# EAGLE library part MT29F64G08CFACAWP:C (library ICs)
8GB NAND Flash memory.
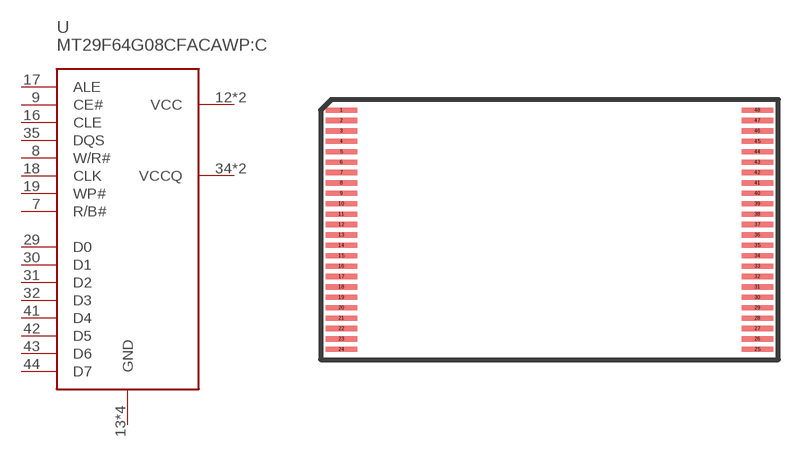
[diagram p59: symbol with the pads of TSOP48; footprint TSOP48]

Designator prefix U

## MT29F64G08CFACAWP:C (DIGIKEY: 557-1538-1-ND; PRICE_PER: 13.63; VALUE: MT29F64G08CFACAWP:C TR)  [TSOP48]
7  R/B#
8  W/R#
9  CE#
12  VCC
13  GND
16  CLE
17  ALE
18  CLK
19  WP#
25  GND
29  D0
30  D1
31  D2
32  D3
34  VCCQ
35  DQS
36  GND
37  VCC
39  VCCQ
41  D4
42  D5
43  D6
44  D7
48  GND

## Footprint TSOP48 (pad centres in mm)
smd 1.5 x 0.25: 1 -10,5.75; 2 -10,5.25; 3 -10,4.75; 4 -10,4.25; 5 -10,3.75; 6 -10,3.25; 7 -10,2.75; 8 -10,2.25; 9 -10,1.75; 10 -10,1.25; 11 -10,0.75; 12 -10,0.25; 13 -10,-0.25; 14 -10,-0.75; 15 -10,-1.25; 16 -10,-1.75; 17 -10,-2.25; 18 -10,-2.75; 19 -10,-3.25; 20 -10,-3.75; 21 -10,-4.25; 22 -10,-4.75; 23 -10,-5.25; 24 -10,-5.75; 25 10,-5.75; 26 10,-5.25; 27 10,-4.75; 28 10,-4.25; 29 10,-3.75; 30 10,-3.25; 31 10,-2.75; 32 10,-2.25; 33 10,-1.75; 34 10,-1.25; 35 10,-0.75; 36 10,-0.25; 37 10,0.25; 38 10,0.75; 39 10,1.25; 40 10,1.75; 41 10,2.25; 42 10,2.75; 43 10,3.25; 44 10,3.75; 45 10,4.25; 46 10,4.75; 47 10,5.25; 48 10,5.75